# EAGLE library part 3X4_SERVO (library pimoroni-headers)
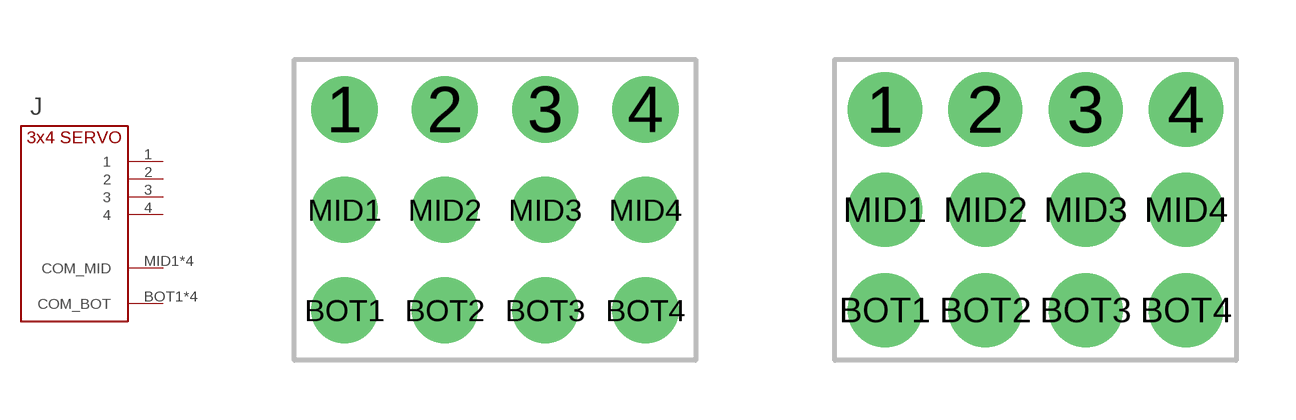
[diagram p17: symbol with the pads of 3X4; footprints 3X4, 3X4_NO_CREAM]

Designator prefix J

## 3X4_SERVO  [3X4]
1  1
2  2
3  3
4  4
BOT1  COM_BOT
BOT2  COM_BOT
BOT3  COM_BOT
BOT4  COM_BOT
MID1  COM_MID
MID2  COM_MID
MID3  COM_MID
MID4  COM_MID

## 3X4_SERVO3X4_NO_CREAM  [3X4_NO_CREAM]
Pads as for 3X4

## 3X4_SERVO3X4_NO_CREAM_SMALL  [3X4_NO_CREAM_SMALL]
Pads as for 3X4

## Footprint 3X4 (pad centres in mm)
drill 1.016 pad 1.676: 1 -3.81,2.54; 2 -1.27,2.54; 3 1.27,2.54; 4 3.81,2.54; BOT1 -3.81,-2.54; BOT2 -1.27,-2.54; BOT3 1.27,-2.54; BOT4 3.81,-2.54; MID1 -3.81,0; MID2 -1.27,0; MID3 1.27,0; MID4 3.81,0

## Footprint 3X4_NO_CREAM (pad centres in mm)
drill 1.016 pad 1.88: 1 -3.81,2.54; 2 -1.27,2.54; 3 1.27,2.54; 4 3.81,2.54; BOT1 -3.81,-2.54; BOT2 -1.27,-2.54; BOT3 1.27,-2.54; BOT4 3.81,-2.54; MID1 -3.81,0; MID2 -1.27,0; MID3 1.27,0; MID4 3.81,0

## Footprint 3X4_NO_CREAM_SMALL (pad centres in mm)
drill 1.016 pad 1.676: 1 -3.81,2.54; 2 -1.27,2.54; 3 1.27,2.54; 4 3.81,2.54; BOT1 -3.81,-2.54; BOT2 -1.27,-2.54; BOT3 1.27,-2.54; BOT4 3.81,-2.54; MID1 -3.81,0; MID2 -1.27,0; MID3 1.27,0; MID4 3.81,0